# Altium integrated library FA-238_25.0000MB-K.IntLib: 1 symbol
Pins are listed as number, name and electrical type; pins without a type are passive.

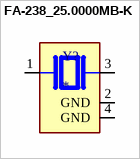
[diagram p0: symbol FA-238_25.0000MB-K]

## FA-238_25.0000MB-K
designator Y?
MF: {'manufacturer': u'Epson'}; MP: FA-238 25.0000MB-K; Package: None; Price: None; Value: *; Availability: Unavailable
footprint XTAL_FA-238_25.0000MB-K
pins: 1, 2 GND (power), 3 2, 4 GND (power)